# Altium schematic symbol library C1206F105K5RAC7800.SchLib: 2 symbols
Pins are listed as number, name and electrical type; pins without a type are passive.

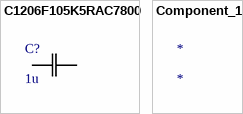
[diagram p0: symbols C1206F105K5RAC7800 to Component_1]

## C1206F105K5RAC7800
designator C?, comment 1u
C1206F105K5RAC7800; Mfr_Name: Kemet
footprint CAPC340180_180N_KEM
pins: 1, 2

## Component_1
designator *